# Altium footprint library ConverterMurata.PcbLib: 1 footprints
Each footprint in its own frame and in the unit in brackets; x right, y up, seen from the top. Pads: shape width x height; smd on the part's side, far side on the other; paste and mask are expansions set on the pad; w line width, h text height; cw(c..) or ccw(c..) is an arc to the next point about the centre after c.
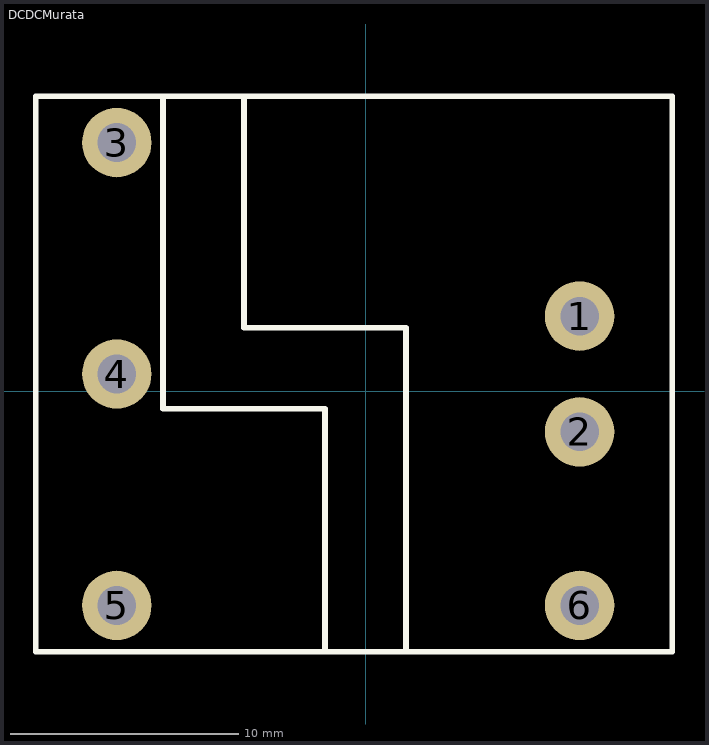
[diagram p0: the footprint, top view; thin cyan lines are the x and y axes]

## DCDCMurata [mil]
pads (6):
  round 120 hole 66.93: 1(370,130) 2(370,-70) 3(-430,430) 4(-430,30) 5(-430,-370) 6(370,-370)
Top Overlay:
  lines w10: -350,510 -350,-30 -70,-30 -70,-450 ; -210,510 -210,110 70,110 70,-450 ; -570,-450 530,-450 530,510 -570,510 -570,-450
3D body: height 302.68, standoff -255, extent -580,-450 520,510